# Altium footprint library ft232pcb.PcbLib: 1 footprints
Each footprint in its own frame and in the unit in brackets; x right, y up, seen from the top. Pads: shape width x height; smd on the part's side, far side on the other; paste and mask are expansions set on the pad; w line width, h text height; cw(c..) or ccw(c..) is an arc to the next point about the centre after c.
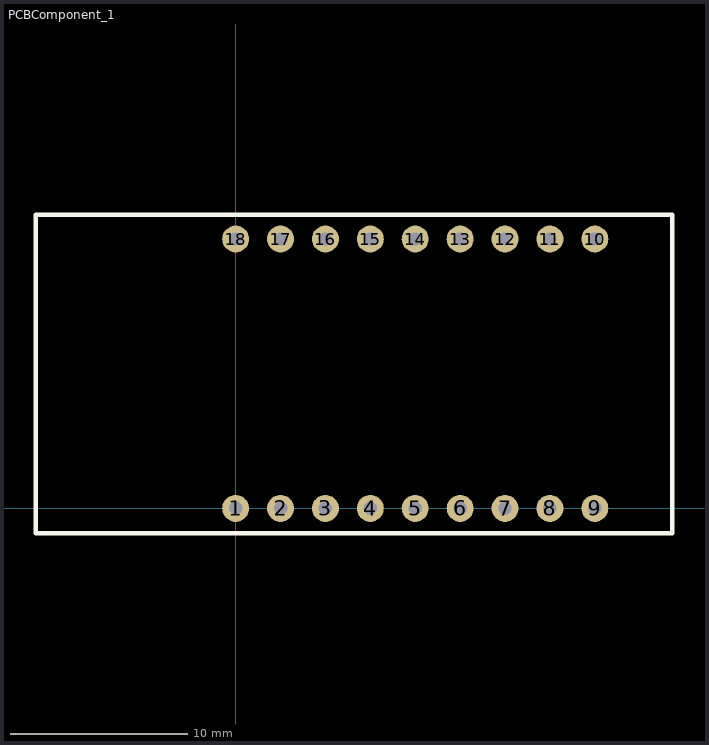
[diagram p0: the footprint, top view; thin cyan lines are the x and y axes]

## PCBComponent_1 [mil]
pads (18):
  round 60 hole 30: 1(0,0) 2(100,0) 3(200,0) 4(300,0) 5(400,0) 6(500,0) 7(600,0) 8(700,0) 9(800,0) 10(800,600) 11(700,600) 12(600,600) 13(500,600) 14(400,600) 15(300,600) 16(200,600) 17(100,600) 18(0,600)
Top Overlay:
  lines w10: -445,-55 972.32,-55 972.32,653.66 -445,653.66 -445,-55